# Altium footprint library Connectors.PcbLib: 12 footprints
Each footprint in its own frame and in the unit in brackets; x right, y up, seen from the top. Pads: shape width x height; smd on the part's side, far side on the other; paste and mask are expansions set on the pad; w line width, h text height; cw(c..) or ccw(c..) is an arc to the next point about the centre after c.
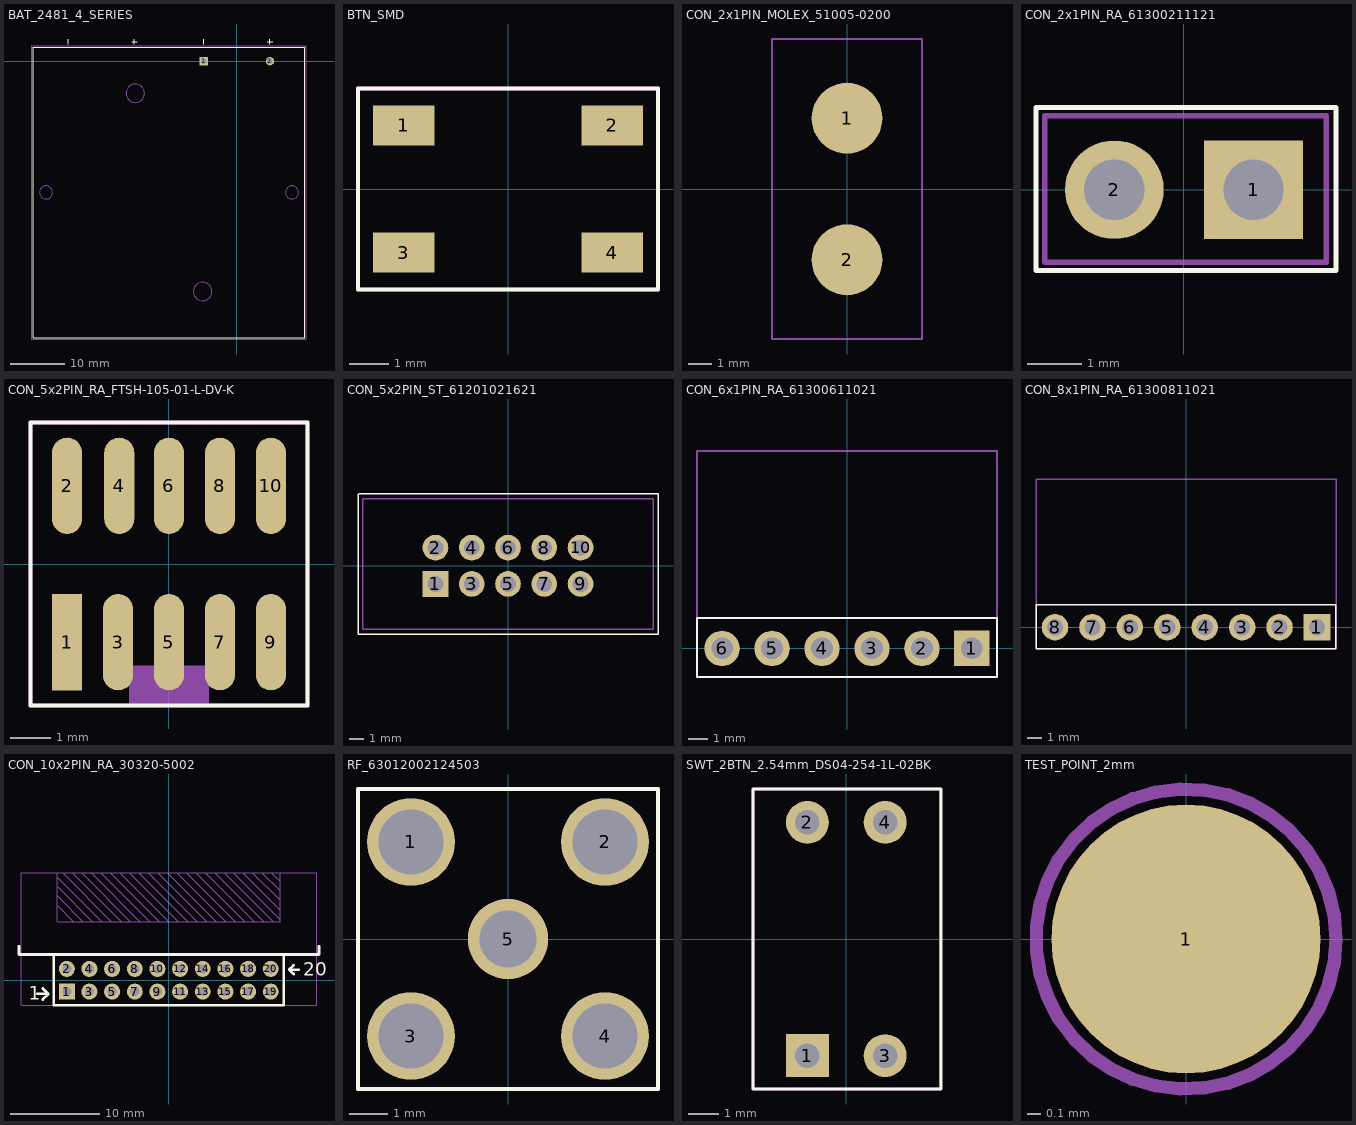
[diagram p0: the footprints below, top view; thin cyan lines are the x and y axes]

## BAT_2481_4_SERIES [mm] "BAT_2481_4_SERIES"
pads (2):
  rect 1.53x1.53 hole 1.02: 1(-6.1,0)
  round 1.53 hole 1.02: 2(6.1,0)
Top Overlay:
  lines w0.1: -31.072,3.09 -31.072,4.09 ; -19.372,3.59 -18.372,3.59 ; -18.872,3.09 -18.872,4.09 ; -6.1,3.09 -6.1,4.09 ; 5.6,3.59 6.6,3.59 ; 6.1,3.09 6.1,4.09 ; -37.486,-50.91 -37.486,2.59 12.514,2.59 12.514,-50.91 -37.486,-50.91
Top Assembly:
  circle w0.1: c-6.286,-42.41 r1.7
  circle w0.1: c-18.686,-5.91 r1.7
  circle w0.1: c-35.136,-24.16 r1.2
  circle w0.1: c10.164,-24.16 r1.2
  lines w0.05: -37.736,-51.16 12.764,-51.16 12.764,2.84 -37.736,2.84 -37.736,-51.16
  text "1" at -5.361,-0.21 h1.52
  text "2" at 6.789,-0.535 h1.52
  text ".Designator" at -26.041,-24.27 h5
3D body: height 13.14, standoff -14.58, extent -37.486,-50.91 12.514,2.59

## BTN_SMD [mm] "BTN_SMD"
pads (4):
  rect 1.55x1 smd: 1(-2.625,1.6) 2(2.625,1.6) 3(-2.625,-1.6) 4(2.625,-1.6)
Top Overlay:
  lines w0.1: -3.775,-2.525 3.775,-2.525 3.775,2.525 -1.85,2.525 -3.775,2.525 -3.775,-2.525
Top Assembly:
  lines w0.1: -3.775,-2.525 -3.775,2.525 -1.85,2.525 3.775,2.525 3.775,-2.525 -3.775,-2.525
  text "3" at -2.875,-2.125 h1
  text "1" at -2.725,1.125 h1
  text ".Designator" at -2.775,-0.75 h1.52
3D body: height 3.8, standoff 0, extent -3.25,-2.25 3.25,2.25

## CON_2x1PIN_MOLEX_51005-0200 [mm] "CON_2x1PIN_MOLEX_51005-0200"
pads (2):
  round 3 smd: 1(0,3) 2(0,-3)
Top Overlay:
  text "." at -0.075,5.725 h2
Top Assembly:
  lines w0.1: -3.175,-6.35 3.175,-6.35 3.175,6.35 -3.175,6.35 -3.175,-6.35
  text ".Designator" at -2.75,-0.625 h1.52

## CON_2x1PIN_RA_61300211121 [mm] "CON_2x1PIN_RA_61300211121"
pads (2):
  rect 1.8x1.8 hole 1.1: 1(1.27,0)
  round 1.8 hole 1.1: 2(-1.27,0)
Top Overlay:
  lines w0.1: -2.7,-1.475 -2.7,1.5 2.775,1.5 2.775,-1.475 -2.7,-1.475
  text "." at 3.425,-0.3 h2
Top Assembly:
  lines w0.1: -2.54,-1.325 -2.54,1.35 2.6,1.35 2.6,-1.325 -2.54,-1.325
  text ".Designator" at -2.15,-0.45 h1.2
  text "1" at 0.6,-1.675 h1.52
3D body: height 6.27, standoff -5.27, extent -2.54,-1.27 2.54,1.27

## CON_5x2PIN_RA_FTSH-105-01-L-DV-K [mm] "CON_5x2PIN_RA_FTSH-105-01-L-DV-K"
pads (10):
  rect 0.75x2.4 smd: 1(-2.54,-1.95)
  oval 0.75x2.4 smd: 2(-2.54,1.95) 3(-1.27,-1.95) 4(-1.24,1.95) 5(0,-1.95) 6(0,1.95) 7(1.27,-1.95) 8(1.27,1.95) 9(2.54,-1.95) 10(2.54,1.95)
Top Overlay:
  lines w0.1: -3.45,-3.525 3.45,-3.525 3.45,3.525 -3.45,3.525 -3.45,-3.525
  text "." at -2.725,-4.4 h1.5
Top Assembly:
  rectangle: -1,-3.525 1,-2.525
  lines w0.1: -3.45,-3.525 -3.45,3.525 3.45,3.525 3.45,-3.525 -3.45,-3.525
  text "1" at -2.725,-2.6 h1
  text "2" at -2.9,1.4 h1
  text "10" at 1.675,1.3 h1
  text ".Designator" at -2.15,-0.75 h1.2
3D body: height 6.26, standoff 0.13, extent -3.175,-2.925 3.175,2.925

## CON_5x2PIN_ST_61201021621 [mm] "CON_5x2PIN_ST_61201021621"
pads (10):
  rect 1.8x1.8 hole 1.1: 1(-5.08,-1.27)
  round 1.8 hole 1.1: 2(-5.08,1.27) 3(-2.54,-1.27) 4(-2.54,1.27) 5(0,-1.27) 6(0,1.27) 7(2.54,-1.27) 8(2.54,1.27) 9(5.08,-1.27) 10(5.08,1.27)
Top Overlay:
  lines w0.1: -10.5,5.025 -10.5,-4.775 10.5,-4.775 10.5,5.025 -10.4,5.025
  text "." at -5.25,-5.85 h2
Top Assembly:
  lines w0.1: -10.16,-4.447 10.16,-4.447 10.16,4.697 -10.16,4.697 -10.16,-4.447
  text "2" at -5.55,0.55 h1.52
  text "10" at 4.2,0.625 h1.52
  text "1" at -5.3,-1.975 h1.52
  text ".Designator" at -3.048,-0.383 h1.52
3D body: height 8.93, standoff -3.17, extent -10.18,-4.462 10.18,4.713

## CON_6x1PIN_RA_61300611021 [mm] "CON_6x1PIN_RA_61300611021"
pads (6):
  rect 1.8x1.8 hole 1.1: 1(6.35,0)
  round 1.8 hole 1.1: 2(3.81,0) 3(1.27,0) 4(-1.27,0) 5(-3.81,0) 6(-6.35,0)
Top Overlay:
  lines w0.1: -7.625,-1.46 -7.625,1.54 7.625,1.54 7.625,-1.46 -7.625,-1.46
  text "." at 8.775,-0.175 h1.52
Top Assembly:
  lines w0.1: -7.625,-1.46 -7.625,10.04 6.5,10.04 7.625,10.04 7.625,-1.46 -7.625,-1.46
  text ".Designator" at -2.6,3.84 h1.52
  text "1" at 6.125,-0.71 h1.52
  text "6" at -6.825,-0.785 h1.52
3D body: height 3.27, standoff -2.27, extent -7.62,-0.34 7.62,10.02

## CON_8x1PIN_RA_61300811021 [mm] "CON_8x1PIN_RA_61300811021"
pads (8):
  rect 1.8x1.8 hole 1.1: 1(8.89,0)
  round 1.8 hole 1.1: 2(6.35,0) 3(3.81,0) 4(1.27,0) 5(-1.27,0) 6(-3.81,0) 7(-6.35,0) 8(-8.89,0)
Top Overlay:
  lines w0.1: -10.175,-1.46 -10.175,1.54 10.175,1.54 10.175,-1.46 -10.175,-1.46
  text "." at 11.325,-0.21 h1.52
Top Assembly:
  lines w0.1: -10.18,-1.46 -10.18,10.04 6.5,10.04 10.18,10.04 10.18,-1.46 -10.18,-1.46
  text ".Designator" at -7.62,3.81 h1.52
  text "1" at 8.68,-0.72 h1.52
  text "8" at -9.34,-0.7 h1.52
3D body: height 1.27, standoff -4.27, extent -10.16,-0.34 10.16,10.02

## CON_10x2PIN_RA_30320-5002 [mm] "CON_10x2PIN_RA_30320-5002"
pads (20):
  rect 1.8x1.8 hole 1.02: 1(-11.43,-1.27)
  round 1.8 hole 1.02: 2(-11.43,1.27) 3(-8.89,-1.27) 4(-8.89,1.27) 5(-6.35,-1.27) 6(-6.35,1.27) 7(-3.81,-1.27) 8(-3.81,1.27) 9(-1.27,-1.27) 10(-1.27,1.27) 11(1.27,-1.27) 12(1.27,1.27) 13(3.81,-1.27) 14(3.81,1.27) 15(6.35,-1.27) 16(6.35,1.27) 17(8.89,-1.27) 18(8.89,1.27) 19(11.43,-1.27) 20(11.43,1.27)
Top Overlay:
  lines w0.1: 13.532,1.194 13.532,1.2
  lines w0.254: -12.9,2.883 -12.9,-2.806 12.9,-2.806 12.9,2.894
  lines w0.3: -16.789,3.797 -16.789,2.883 12.368,2.883 16.84,2.883 16.84,3.797 ; -14.724,-1.506 -13.53,-1.506 -13.505,-1.531 ; -14.14,-2.166 -13.505,-1.531 ; -14.14,-0.896 -13.505,-1.531 ; 13.5,1.194 13.983,1.677 ; 13.506,1.194 14.532,1.194 ; 13.519,1.175 14.002,0.692
  text "1" at -15.7,-2.206 h1.52
  text "20" at 15.1,0.494 h1.52
Top Assembly:
  lines w0.1: -12.511,9.45 -9.627,6.566 ; -12.5,12.03 -12.5,6.555 12.5,6.555 12.5,12.052 ; -12.484,11.557 -7.493,6.566 ; -12.473,8.345 -10.693,6.566 ; -12.448,10.453 -8.554,6.56 ; -11.9,12.039 -6.421,6.56 ; -10.846,12.052 -5.347,6.553 ; -9.779,12.052 -4.293,6.566 ; -8.712,12.052 -3.226,6.566 ; -7.645,12.052 -2.154,6.56 ; -6.579,12.052 -1.087,6.56 ; -5.499,12.039 -0.02,6.56 ; -4.445,12.052 1.041,6.566 ; -3.378,12.052 2.114,6.56 ; -2.311,12.052 3.18,6.56 ; -1.245,12.052 4.247,6.56 ; -0.178,12.052 5.309,6.566 ; 0.889,12.052 6.375,6.566 ; 1.956,12.052 7.448,6.56 ; 3.023,12.052 8.509,6.566 ; 4.089,12.052 9.581,6.56 ; 5.156,12.052 10.648,6.56 ; 6.223,12.052 11.722,6.553 ; 7.252,12.039 12.498,6.793 ; 8.306,12.052 12.484,7.874 ; 9.373,12.052 12.486,8.939 ; 10.439,12.052 12.484,10.007 ; 11.506,12.052 12.471,11.087 ; -16.561,-2.806 16.561,-2.806 16.561,12.052 -16.561,12.052 -16.561,-2.806
  text "20" at 10.3,0.594 h1.52
  text "1" at -11.7,-2.106 h1.52
  text ".Designator" at -8.255,2.54 h1.52
  text "2" at -11.925,0.55 h1.52
3D body: height 8.78, standoff -2.6, extent -16.5,-1.602 16.5,11.99

## RF_63012002124503 [mm] "RF_63012002124503"
pads (5):
  round 2.3 hole 1.7: 1(-2.54,2.54) 2(2.54,2.54) 3(-2.54,-2.54) 4(2.54,-2.54)
  round 2.1 hole 1.5: 5(0,0)
Top Overlay:
  lines w0.1: -3.925,-3.925 -3.925,3.925 3.925,3.925 3.925,-3.925 -3.925,-3.925
Top Assembly:
  lines w0.1: -3.925,-3.925 3.925,-3.925 3.925,3.925 -3.925,3.925 -3.925,-3.925
  text "4" at 2,-3.3 h1.52
  text "1" at -2.8,1.825 h1.52
  text ".Designator" at -2.8,-0.65 h1.52
3D body: height 10.4, standoff -3.9, extent -3.5,-3.5 3.5,3.5

## SWT_2BTN_2.54mm_DS04-254-1L-02BK [mm] "SWT_2BTN_2.54mm_DS04-254-1L-02BK"
pads (4):
  rect 1.4x1.4 hole 0.8: 1(-1.27,-3.81)
  round 1.4 hole 0.8: 2(-1.27,3.81) 3(1.27,-3.81) 4(1.27,3.81)
Top Overlay:
  lines w0.1: -3.05,-4.9 3.1,-4.9 3.1,4.9 -3.05,4.9 -3.05,-4.9
Top Assembly:
  lines w0.1: -3.054,-4.9 -3.054,4.9 3.08,4.9 3.08,1.78 3.08,-4.9 -3.054,-4.9
  text "4" at 0.8,3.08 h1.52
  text "1" at -1.54,-4.56 h1.52
  text ".Designator" at -2.8,-0.7 h1.52
  text "2" at -1.85,3.075 h1.52
3D body: height 4.14, standoff -4.35, extent -3.04,-3.935 3.04,3.935

## TEST_POINT_2mm [mm] "TEST POINT_2mm"
pads (1):
  round 2 smd: 1(0,0)
Top Assembly:
  circle w0.1: c0,0 r1.116
  text ".Designator" at -0.725,-0.175 h0.4